# EAGLE library part MC34931 (library Jack-connectors)
Multicomp HDMI Receptacle SMT Type without Flange 19 pin
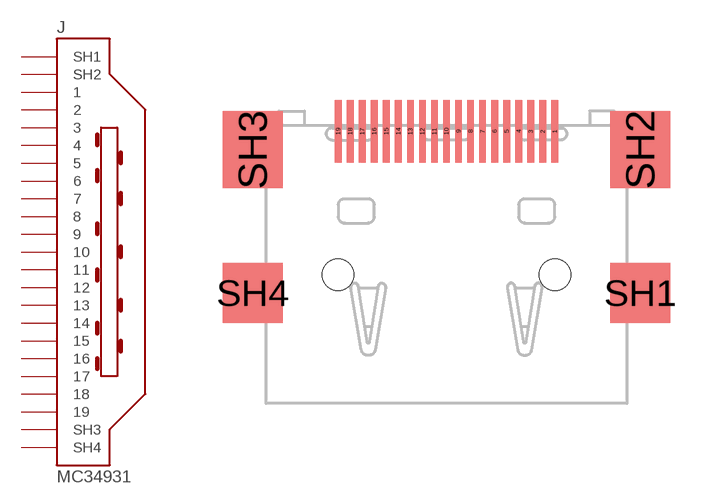
[diagram p17: symbol with the pads of MC34931; footprint MC34931]

Designator prefix J

## MC34931 (DESCRIPTION: Multicomp HDMI Receptacle SMT Type without Flange 19 pin; PACK: MC34931)  [MC34931]
1  1  pas
2  2  pas
3  3  pas
4  4  pas
5  5  pas
6  6  pas
7  7  pas
8  8  pas
9  9  pas
10  10  pas
11  11  pas
12  12  pas
13  13  pas
14  14  pas
15  15  pas
16  16  pas
17  17  pas
18  18  pas
19  19  pas
SH1  SH1  pas
SH2  SH2  pas
SH3  SH3  pas
SH4  SH4  pas

## Footprint MC34931 (pad centres in mm)
smd 0.28 x 2.6: 1 4.5,10.31; 2 4,10.31; 3 3.5,10.31; 4 3,10.31; 5 2.5,10.31; 6 2,10.31; 7 1.5,10.31; 8 1,10.31; 9 0.5,10.31; 10 0,10.31; 11 -0.5,10.31; 12 -1,10.31; 13 -1.5,10.31; 14 -2,10.31; 15 -2.5,10.31; 16 -3,10.31; 17 -3.5,10.31; 18 -4,10.31; 19 -4.5,10.31
smd 2.5 x 2.5: SH1 8.05,3.59; SH4 -8.05,3.59
smd 2.5 x 3.2: SH2 8.05,9.55; SH3 -8.05,9.55
hole 1.3 at -4.5,4.35
hole 1.3 at 4.5,4.35